# Altium integrated library Midnight Sun Integrated Library.IntLib: 89 symbols
Pins are listed as number, name and electrical type; pins without a type are passive.

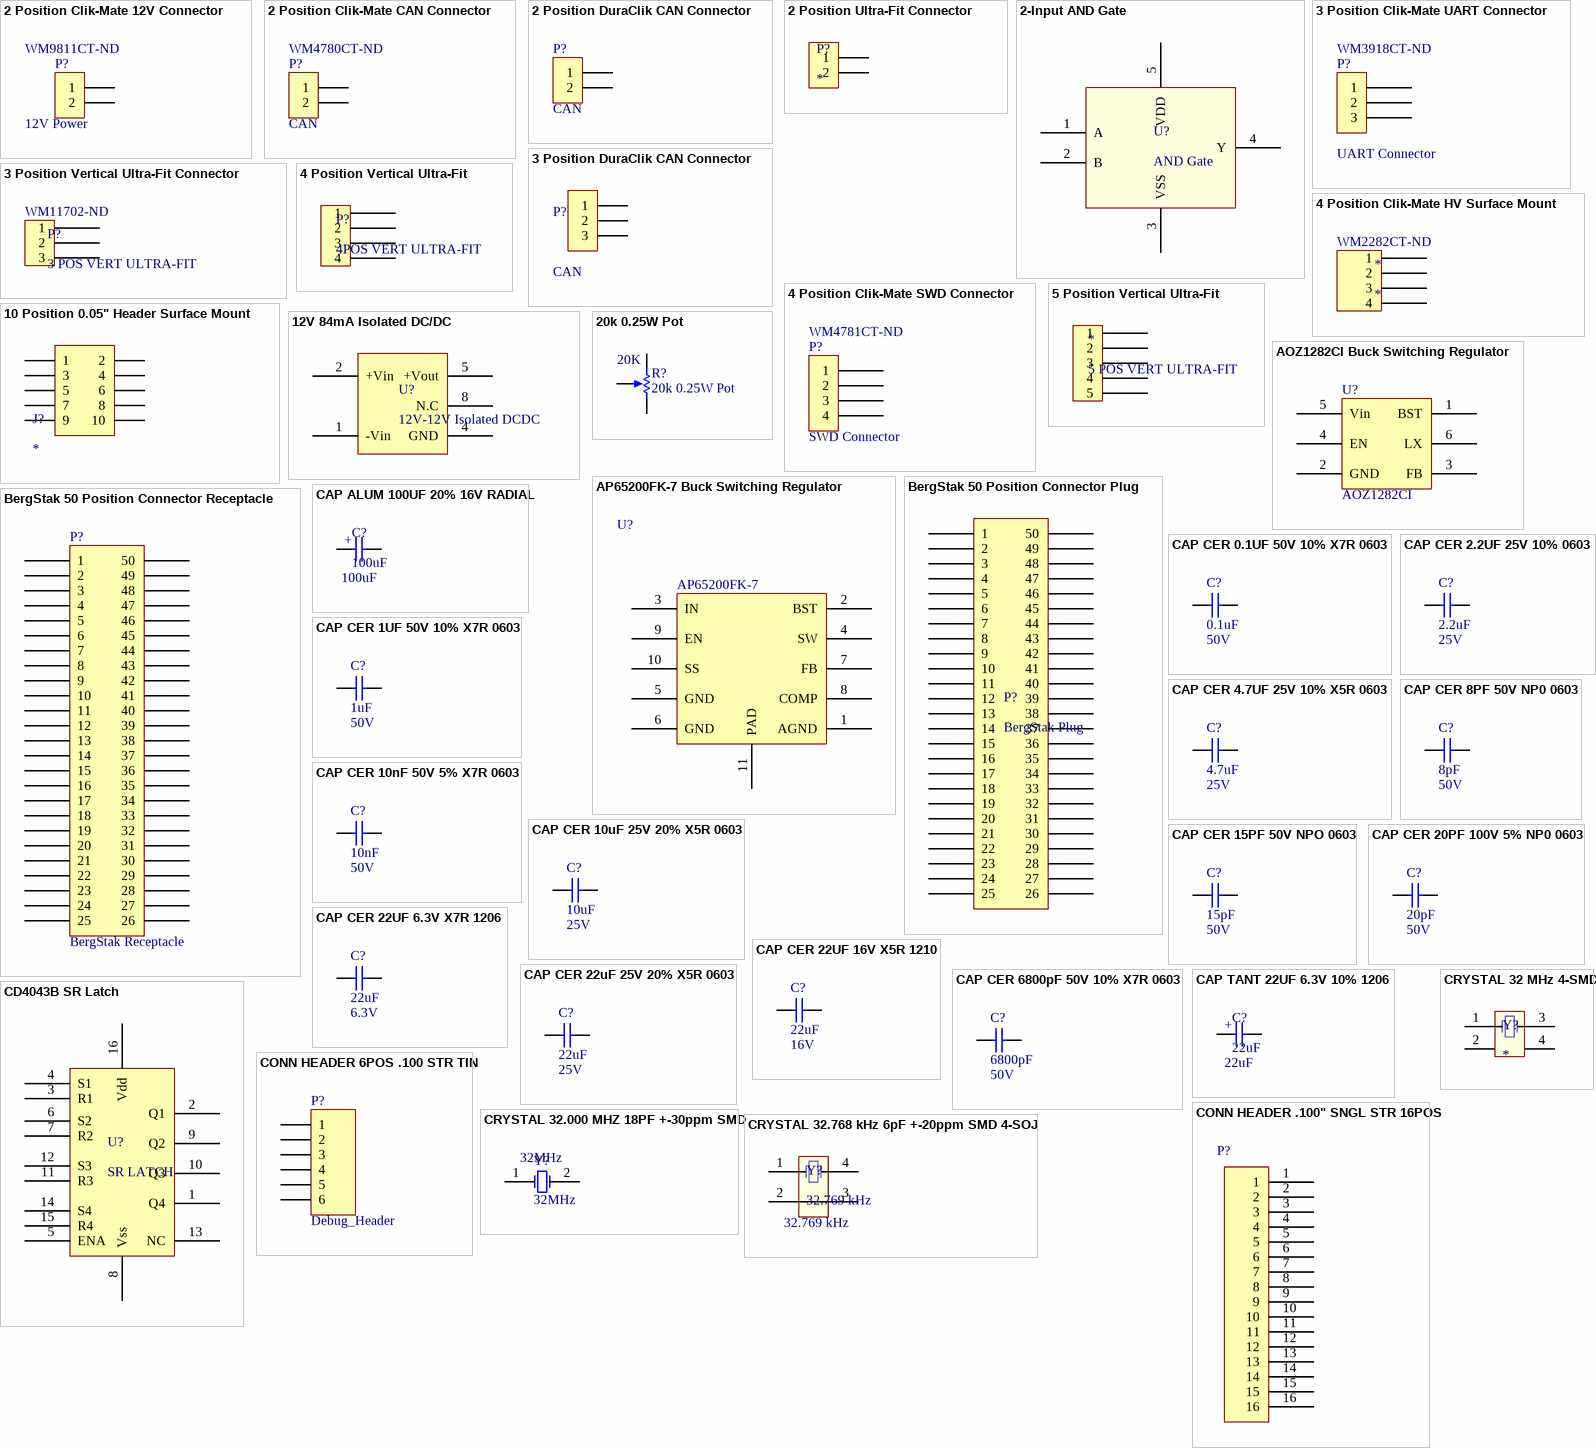
[diagram p0: symbols 2 Position Clik-Mate 12V Connector to CRYSTAL 32.768 kHz 6pF +-20ppm SMD 4-SOJ]

## 2 Position Clik-Mate 12V Connector
designator P?, comment 12V Power  Supplier Part Number 1: WM9811CT-ND
2 Position Receptacle Connector 0.059" (1.50mm) Surface Mount Tin; Manufacturer Part Number: 5025840270; Digikey Part Number: WM9811CT-ND; Supplier 1: Digi-Key
footprint WM9811CT-ND
pins: 1, 2

## 2 Position Clik-Mate CAN Connector
designator P?, comment CAN  Supplier Part Number 1: WM4780CT-ND
2 Position Receptacle Connector 0.049" (1.25mm) Surface Mount Tin; Manufacturer Part Number: 5023820270; Digikey Part Number: WM4780CT-ND; Supplier 1: Digi-Key
footprint WM4780CT-ND
pins: 1, 2

## 2 Position DuraClik CAN Connector
designator P?, comment CAN
2 Positions Header, Shrouded Connector 0.079" (2.00mm) Surface Mount, Right Angle Tin; Manufacturer: Molex; Manufacturer Part Number: 5023520200; Supplier: Digi-Key; Supplier Part Number: WM7169CT-ND
footprint 2 POS Dura-Click (WM7169CT-ND)
pins: 1, 2

## 2 Position Ultra-Fit Connector
designator P?
2 Positions Header, Shrouded Connector 0.138" (3.50mm) Through Hole Gold; Manufacturer PN: 1722861302; Digikey PN: WM11673-ND
pins: 1, 2

## 2-Input AND Gate
designator U?, comment AND Gate
IC GATE AND 1CH 2-INP 5-SSOP; Manufacture: Rohm Semiconductor; Manufacture Part Number: BU4S81G2-TR; Voltage - Supply': 3V ~ 16V; Logic Level - Low: 1.5V ~ 4V; Logic Level - High: 3.5V ~ 11V; Supplier 1: Digi-Key; Supplier Part Number 1: BU4S81G2CT-ND
footprint 2-Input AND Gate (IC GATE AND 1CH 2-INP 5-SSOP)
pins: 1 A, 2 B, 3 VSS, 4 Y, 5 VDD

## 3 Position Clik-Mate UART Connector
designator P?, comment UART Connector  Supplier Part Number 1: WM3918CT-ND
3 Position Receptacle Connector 0.049" (1.25mm) Surface Mount Tin; Maufacturer Part Number: 5023820370; Digikey Part Number: WM3918CT-ND; ComponentLink1Description: datasheet; ComponentLink1URL: http://www.molex.com/pdm_docs/sd/5023820370_sd.pdf; Supplier 1: Digi-Key
footprint WM3918CT-ND
pins: 1, 2, 3

## 3 Position DuraClik CAN Connector
designator P?, comment CAN
3 Positions Header, Shrouded Connector 0.079" (2.00mm) Surface Mount, Right Angle Tin; Manufacturer: Molex; Manufacturer Part Number: 5023520300; Supplier: Digi-Key; Supplier Part Number: WM10858CT-ND
footprint 3 POS Dura-Click (WM10858CT-ND)
pins: 1, 2, 3

## 3 Position Vertical Ultra-Fit Connector
designator P?, comment 3 POS VERT ULTRA-FIT  Supplier Part Number 1: WM11702-ND
3 Positions Header Connector 0.138" (3.50mm) Through Hole Tin; Manufacture: Molex LLC; Manufacture Part Number: 172287-1103; Supplier 1: Digi-Key
pins: 1, 2, 3

## 4 Position Clik-Mate HV Surface Mount
designator *  Supplier Part Number 1: WM2282CT-ND
4 Position Receptacle Connector 0.079" (2.00mm) Surface Mount, Right Angle Tin; Number of Positions: 4; Number of Rows: 1; Pitch: 0.079" (2.00mm); Mounting Type: Surface Mount, Right Angle; Supplier 1: Digi-Key
footprint WM2282CT-ND (4 Position 2.0mm Clik-Mate Connectors)
pins: 1, 2, 3, 4

## 4 Position Clik-Mate SWD Connector
designator P?, comment SWD Connector  Supplier Part Number 1: WM4781CT-ND
4 Position Receptacle Connector 0.049" (1.25mm) Surface Mount Tin; Maufacturer Part Number: 5023820470; Digikey Part Number: WM4781CT-ND; Supplier 1: Digi-Key
footprint WM4781CT-ND
pins: 1, 2, 3, 4

## 4 Position Vertical Ultra-Fit
designator P?, comment 4POS VERT ULTRA-FIT
4 Positions Header Connector 0.138" (3.50mm) Through Hole Tin; Manufacture: Molex LLC; Manufacture Part Number: 1722871104; Supplier 1: Digi-Key; Supplier Part Number 1: WM11703-ND
footprint 4 POS ULTRA-FIT
pins: 1, 2, 3, 4

## 5 Position Vertical Ultra-Fit
designator *, comment 5 POS VERT ULTRA-FIT
5 Positions Header Connector 0.138" (3.50mm) Through Hole Tin; Manufacture Part Number: 1722871105; Manufacture: Molex LLC; Supplier 1: Digi-Key; Supplier Part Number 1: WM11704-ND
footprint 5 POS ULTRA-FIT
pins: 1, 2, 3, 4, 5

## 10 Position 0.05" Header Surface Mount
designator J?
10 Positions Header Connector 0.050" (1.27mm) Surface Mount Gold; Manufacturer: Amphenol FCI; Manufacturer Part Number: 20021121-00010C4LF; Supplier: Digikey; SupplierPartNumber: 609-3695-1-ND
footprint 10 POS 1.27MM RECT CONN (Amphenol 10 Positions Header Connector 0.050" (1.27mm) Surface Mount Gold)
pins: 1, 2, 3, 4, 5, 6, 7, 8, 9, 10

## 12V 84mA Isolated DC/DC
designator U?, comment 12V-12V Isolated DCDC
Isolated Module DC DC Converter 1 Output 12V 84mA 10.8V - 13.2V Input; Manufacturer Part Number: ISE1212A-TR; Manufacturer: XP Power; Supplier 1: Digi-Key; Supplier Part Number 1: 1470-2950-1-ND
footprint 1470-2950-1-ND/Isolated DCDC
pins: 1 -Vin, 2 +Vin, 4 GND, 5 +Vout, 8 N.C

## 20k 0.25W Pot
designator R?  value 20K
20k Ohm 0.25W, 1/4W Gull Wing Surface Mount Trimmer Potentiometer; Manufacture: TT Electronics/BI; Manufacture Part Number: 23BR20KLFTR; Adjustment Type: Top; Turns: 1; Tolerence: 20%; Power: 1/4W; Supplier 1: Digi-Key; Supplier Part Number 1: 987-1016-1-ND
simulation model POT (Potentiometer)
footprint 20K POT
pins: 1 TOP, 2 TAP, 3 BOT
1 alternate drawing of the same symbol

## AOZ1282CI Buck Switching Regulator
designator U?  Manufacturer Part Number: AOZ1282CI  (hidden comment: AOZ1282CI Buck Switching Regulator)
IC REG BUCK ADJ 1.2A SOT23-6; Digikey Part Number: 785-1613-1-ND; Supplier 1: Digi-Key; Supplier Part Number 1: 785-1613-1-ND
footprint SOT23-6
pins: 1 BST, 2 GND, 3 FB, 4 EN, 5 Vin, 6 LX

## AP65200FK-7 Buck Switching Regulator
designator U?  Manufacturer Part Number: AP65200FK-7  (hidden comment: AP65200FK-7 Buck Switching Regulator)
Buck Switching Reg IC Positive Adjustable 0.925V 1 Output 2A 10-UFDFN Exposed Pad; Digikey Part Number: AP65200FK-7DICT-ND; Supplier 1: Digi-Key; Supplier Part Number 1: AP65200FK-7DICT-ND
footprint 10-UFDFN
pins: 1 AGND, 2 BST, 3 IN, 4 SW, 5 GND (power), 6 GND (power), 7 FB, 8 COMP, 9 EN, 10 SS, 11 PAD

## BergStak 50 Position Connector Plug
designator P?, comment BergStak Plug
50 Position Connector Plug, Outer Shroud Contacts Surface Mount Gold; Manufacturer PN: 10132797-055100LF; Digikey PN: 609-5226-1-ND
footprint Bergstak 50 Pos Plug (Bergstak 50 Position Plug)
pins: 1, 2, 3, 4, 5, 6, 7, 8, 9, 10, 11, 12, 13, 14, 15, 16, 17, 18, 19, 20, 21, 22, 23, 24, 25, 26, 27, 28, 29, 30, 31, 32, 33, 34, 35, 36, 37, 38, 39, 40, 41, 42, 43, 44, 45, 46, 47, 48, 49, 50

## BergStak 50 Position Connector Receptacle
designator P?, comment BergStak Receptacle
50 Position Connector Receptacle, Center Strip Contacts Surface Mount Gold; Manufacturer Part Number: 10132798-052100LF; Digikey Part Number: 609-5227-1-ND; Supplier 1: Digi-Key; Supplier Part Number 1: 609-5227-1-ND
footprint Bergstak 50 Pos Receptacle (Bergstak 50 Position Receptacle)
pins: 1, 2, 3, 4, 5, 6, 7, 8, 9, 10, 11, 12, 13, 14, 15, 16, 17, 18, 19, 20, 21, 22, 23, 24, 25, 26, 27, 28, 29, 30, 31, 32, 33, 34, 35, 36, 37, 38, 39, 40, 41, 42, 43, 44, 45, 46, 47, 48, 49, 50

## CAP ALUM 100UF 20% 16V RADIAL
designator C?, comment 100uF
100µF 16V Aluminum Capacitors Radial, Can 2000 Hrs @ 105°C; Manufacturer: Nichicon; Manufacturer PN: UKA1C101MDD; Supplier: Digikey; Supplier PN: 493-15321-ND; Voltage: 16V; Value: 100uF
footprint CAP ALUM 100UF 20% 16V RADIAL (100µF 16V Aluminum Capacitors Radial, Can 2000 Hrs @ 105°C)
pins: 1, 2
text: +

## CAP CER 0.1UF 50V 10% X7R 0603
designator C?, comment 0.1uF  Voltage: 50V
0.10µF ±10% 50V Ceramic Capacitor X7R 0603 (1608 Metric); Manufacturer: AVX Corporation; ManufacturerPartNumber: 06035C104KAT2A; Value: 0.1uF; Supplier: Digi-Key; SupplierPartNumber: 478-5052-1-ND
footprint CAPC1608X06N (Chip Capacitor, 2-Leads, Body 1.60x0.81mm, IPC Medium Density)
pins: 1, 2

## CAP CER 1UF 50V 10% X7R 0603
designator C?, comment 1uF  Voltage: 50V
1µF ±10% 50V Ceramic Capacitor X7R 0603 (1608 Metric); Manufacturer: Taiyo Yuden; ManufacturerPartNumber: UMK107AB7105KA-T; Value: 1uF; Supplier 1: Digi-Key; Supplier Part Number 1: 587-3247-1-ND
footprint CAPC1608X06N (Chip Capacitor, 2-Leads, Body 1.60x0.81mm, IPC Medium Density)
pins: 1, 2

## CAP CER 2.2UF 25V 10% 0603
designator C?, comment 2.2uF  Voltage: 25V
2.2µF ±10% 25V Ceramic Capacitor X5R 0603 (1608 Metric); ManufacturerPartNumber: GRM188R61E225KA12D; Manufacturer: Murata Electronics North America; Supplier: Digi-Key; Value: 2.2uF; Supplier Part Number: 490-10731-1-ND
footprint CAPC1608X06N (Chip Capacitor, 2-Leads, Body 1.60x0.81mm, IPC Medium Density)
pins: 1, 2

## CAP CER 4.7UF 25V 10% X5R 0603
designator C?, comment 4.7uF  Voltage: 25V
4.7µF ±10% 25V Ceramic Capacitor X5R 0603 (1608 Metric); Manufacturer: Murata Electronics North America; ManufacturerPartNumber: GRM188R61E475KE11D; Value: 4.7uF; Supplier: Digi-Key; SupplierPartNumber: 490-7203-1-ND
footprint CAPC1608X06N (Chip Capacitor, 2-Leads, Body 1.60x0.81mm, IPC Medium Density)
pins: 1, 2

## CAP CER 8PF 50V NP0 0603
designator C?, comment 8pF  Voltage: 50V
8pF ±0.5pF 50V Ceramic Capacitor C0G, NP0 0603 (1608 Metric); Manufacturer: Murata Electronics North America; ManufacturerPartNumber: GRM1885C1H8R0DA01D; Value: 8pF; Supplier: Digi-Key; SupplierPartNumber: 490-9670-1-ND
footprint CAPC1608X06N (Chip Capacitor, 2-Leads, Body 1.60x0.81mm, IPC Medium Density)
pins: 1, 2

## CAP CER 10nF 50V 5% X7R 0603
designator C?, comment 10nF  Voltage: 50V
10000pF ±5% 50V Ceramic Capacitor U2J 0603 (1608 Metric); Manufacturer: Kemet; ManufacturerPartNumber: C0603C103J5JAC7867; Value: 10nF; Supplier: Digi-Key; SupplierPartNumber: 399-13384-1-ND
footprint CAPC1608X06N (Chip Capacitor, 2-Leads, Body 1.60x0.81mm, IPC Medium Density)
pins: 1, 2

## CAP CER 10uF 25V 20% X5R 0603
designator C?, comment 10uF  Voltage: 25V
10µF ±20% 25V Ceramic Capacitor X5R 0603 (1608 Metric); Manufacturer: Murata Electronics North America; ManufacturerPartNumber: GRM188R61E106MA73D; Value: 10uF; Supplier: Digi-Key; SupplierPartNumber: 490-7202-1-ND
footprint CAPC1608X06N (Chip Capacitor, 2-Leads, Body 1.60x0.81mm, IPC Medium Density)
pins: 1, 2

## CAP CER 15PF 50V NPO 0603
designator C?, comment 15pF  Voltage: 50V
15pF ±5% 50V Ceramic Capacitor C0G, NP0 0603 (1608 Metric); Manufacturer: Yageo; ManufacturerPartNumber: CC0603JRNPO9BN150; Value: 15pF; Supplier: Digi-Key; SupplierPartNumber: 311-1060-1-ND
footprint CAPC1608X06N (Chip Capacitor, 2-Leads, Body 1.60x0.81mm, IPC Medium Density)
pins: 1, 2

## CAP CER 20PF 100V 5% NP0 0603
designator C?, comment 20pF  Voltage: 50V
22pF 100V Ceramic Capacitor C0G, NP0 0603 (1608 Metric) 0.063" L x 0.031" W (1.60mm x 0.80mm); ManufacturerPartNumber: GCM1885C2A220JA16D; Manufacturer: Murata Electronics North America; Value: 20pF; SupplierPartNumber: 490-4942-1-ND; Supplier: Digi-Key
footprint CAPC1608X06N (Chip Capacitor, 2-Leads, Body 1.60x0.81mm, IPC Medium Density)
pins: 1, 2

## CAP CER 22UF 6.3V X7R 1206
designator C?, comment 22uF  Voltage: 6.3V
22µF ±10% 6.3V Ceramic Capacitor X7R 1206 (3216 Metric); Manufacturer: Murata; ManufacturerPartNumber: GRM31CR70J226KE19L; Value: 22uF; Supplier: Digi-Key; SupplierPartNumber: 490-6515-1-ND
footprint CAPC3216X18N (Chip Capacitor, 2-Leads, Body 3.20x1.60mm, IPC Medium Density)
pins: 1, 2

## CAP CER 22UF 16V X5R 1210
designator C?, comment 22uF  Voltage: 16V
22µF ±20% 16V Ceramic Capacitor X5R 1210 (3225 Metric); Manufacturer: Murata; ManufacturerPartNumber: GRM32ER61C226ME20L; Value: 22uF; Supplier: Digi-Key; SupplierPartNumber: 490-1881-1-ND
footprint CAPC3225X28M (Chip Capacitor, 2-Leads, Body 3.20x2.50mm, IPC Low Density)
pins: 1, 2

## CAP CER 22uF 25V 20% X5R 0603
designator C?, comment 22uF  Voltage: 25V
0.22µF ±20% 25V Ceramic Capacitor X5R 0603 (1608 Metric); Manufacturer: Wurth Electronics Inc; ManufacturerPartNumber: 885012106019; Value: 22uF; Supplier: Digi-Key; SupplierPartNumber: 732-7916-1-ND
footprint CAPC1608X06N (Chip Capacitor, 2-Leads, Body 1.60x0.81mm, IPC Medium Density)
pins: 1, 2

## CAP CER 6800pF 50V 10% X7R 0603
designator C?, comment 6800pF  Voltage: 50V
6800pF ±10% 50V Ceramic Capacitor X7R 0603 (1608 Metric); Manufacturer: Samsung Electro-Mechanics America, Inc.; ManufacturerPartNumber: CL10B682KB8SFNC; Value: 6800pF; Supplier: Digi-Key; SupplierPartNumber: 1276-2103-1-ND
footprint CAPC1608X06N (Chip Capacitor, 2-Leads, Body 1.60x0.81mm, IPC Medium Density)
pins: 1, 2

## CAP TANT 22UF 6.3V 10% 1206
designator C?, comment 22uF
22µF ±10% Molded Tantalum Capacitors 6.3V 1206 (3216 Metric) 3 Ohm; Manufacturer PN: TAJA226K006RNJ; Manufacturer: AVX Corporation; Supplier: Digikey; Supplier PN: 478-3865-2-ND; Voltage: 6.3V; Value: 22uF
footprint CAP TANT 22UF 6.3V 10% 1206 (22µF ±10% Molded Tantalum Capacitors 6.3V 1206 (3216 Metric) 3 Ohm)
pins: 1, 2
text: +

## CD4043B SR Latch
designator U?, comment SR LATCH
S-R Latch 4 Channel 1:1 IC Tri-State 16-TSSOP; Manufacture: Texas Instruments; Supply Voltage: 3-18V; Delay Time: 50ns; Output Type: Tri-State; Package: 16SOIC; Supplier 1: Digi-Key; Supplier Part Number 1: 296-31496-1-ND
footprint CD4043BDR-16SOIC (SR LATCH)
pins: 1 Q4, 2 Q1, 3 R1, 4 S1, 5 ENA, 6 S2, 7 R2, 8 Vss, 9 Q2, 10 Q3, 11 R3, 12 S3, 13 NC, 14 S4, 15 R4, 16 Vdd

## CONN HEADER 6POS .100 STR TIN
designator P?, comment Debug_Header
6 Positions Header, Unshrouded, Breakaway Connector 0.100" (2.54mm) Surface Mount Tin; Manufacturer: Molex, LLC; Manufacturer Part Number: 0015912060; Supplier: Digikey; Supplier Part Number: WM17449-ND
footprint CONN HEADER 6POS .100" VERT TIN (6 Positions Header, Unshrouded, Breakaway Connector 0.100" (2.54mm) Surface Mount Tin)
pins: 1, 2, 3, 4, 5, 6

## CONN HEADER .100" SNGL STR 16POS
designator P?  (value not drawn)
16 Positions Header, Breakaway Connector 0.100" (2.54mm) Through Hole Gold; MFG_PN: PRPC016SAAN-RC; MFG: Sullins Connector Solutions; Supplier: Digikey; Supplier_PN: S1011EC-16-ND
footprint CONN HEADER .100" SNGL STR 16POS (16 Positions Header, Breakaway Connector 0.100" (2.54mm) Through Hole Gold)
pins: 1, 2, 3, 4, 5, 6, 7, 8, 9, 10, 11, 12, 13, 14, 15, 16

## CRYSTAL 32 MHz 4-SMD
designator Y?
32MHz ±15ppm Crystal 8pF 50 Ohm -40°C ~ 85°C AEC-Q200 Surface Mount 4-SMD, No Lead; Manufacturer PN: CX2520DB32000D0GPSC1; Manfacturer: AVX Corp/Kyocera Corp; Supplier: Digikey; Supplier PN: 1253-1730-1-ND
footprint CX2520DB CRYSTAL
pins: 1 OSC1, 2, 3 OSC2, 4 3

## CRYSTAL 32.000 MHZ 18PF +-30ppm SMD
designator Y?, comment 32MHz
32MHz ±30ppm Crystal 18pF 40 Ohm -40°C ~ 85°C Surface Mount HC49/US; ManufacturerPartNumber: ABLS2-32.000MHZ-D4YF-T; Manufacturer: Abracon LLC; Supplier: Digi-Key; SupplierPartNumber: 535-9888-1-ND; Supplier 1: Digi-Key; Supplier Part Number 1: 535-9888-1-ND; Frequency: 32MHz
footprint HC49
pins: 1 OSC1, 2 OSC2

## CRYSTAL 32.768 kHz 6pF +-20ppm SMD 4-SOJ
designator Y?, comment 32.769 kHz
32.768kHz ±20ppm Crystal 6pF 50 kOhm -40°C ~ 85°C Surface Mount 4-SOJ, 5.50mm pitch; Manufacturer Part Number: ABS25-32.768KHZ-6-T; Digikey Part Number: 535-10240-1-ND; Supplier 1: Digi-Key; Supplier Part Number 1: 535-10240-1-ND; VALUE: 32.769 kHz
footprint 4-SOJ
pins: 1 OSC1, 2, 3, 4 OSC2

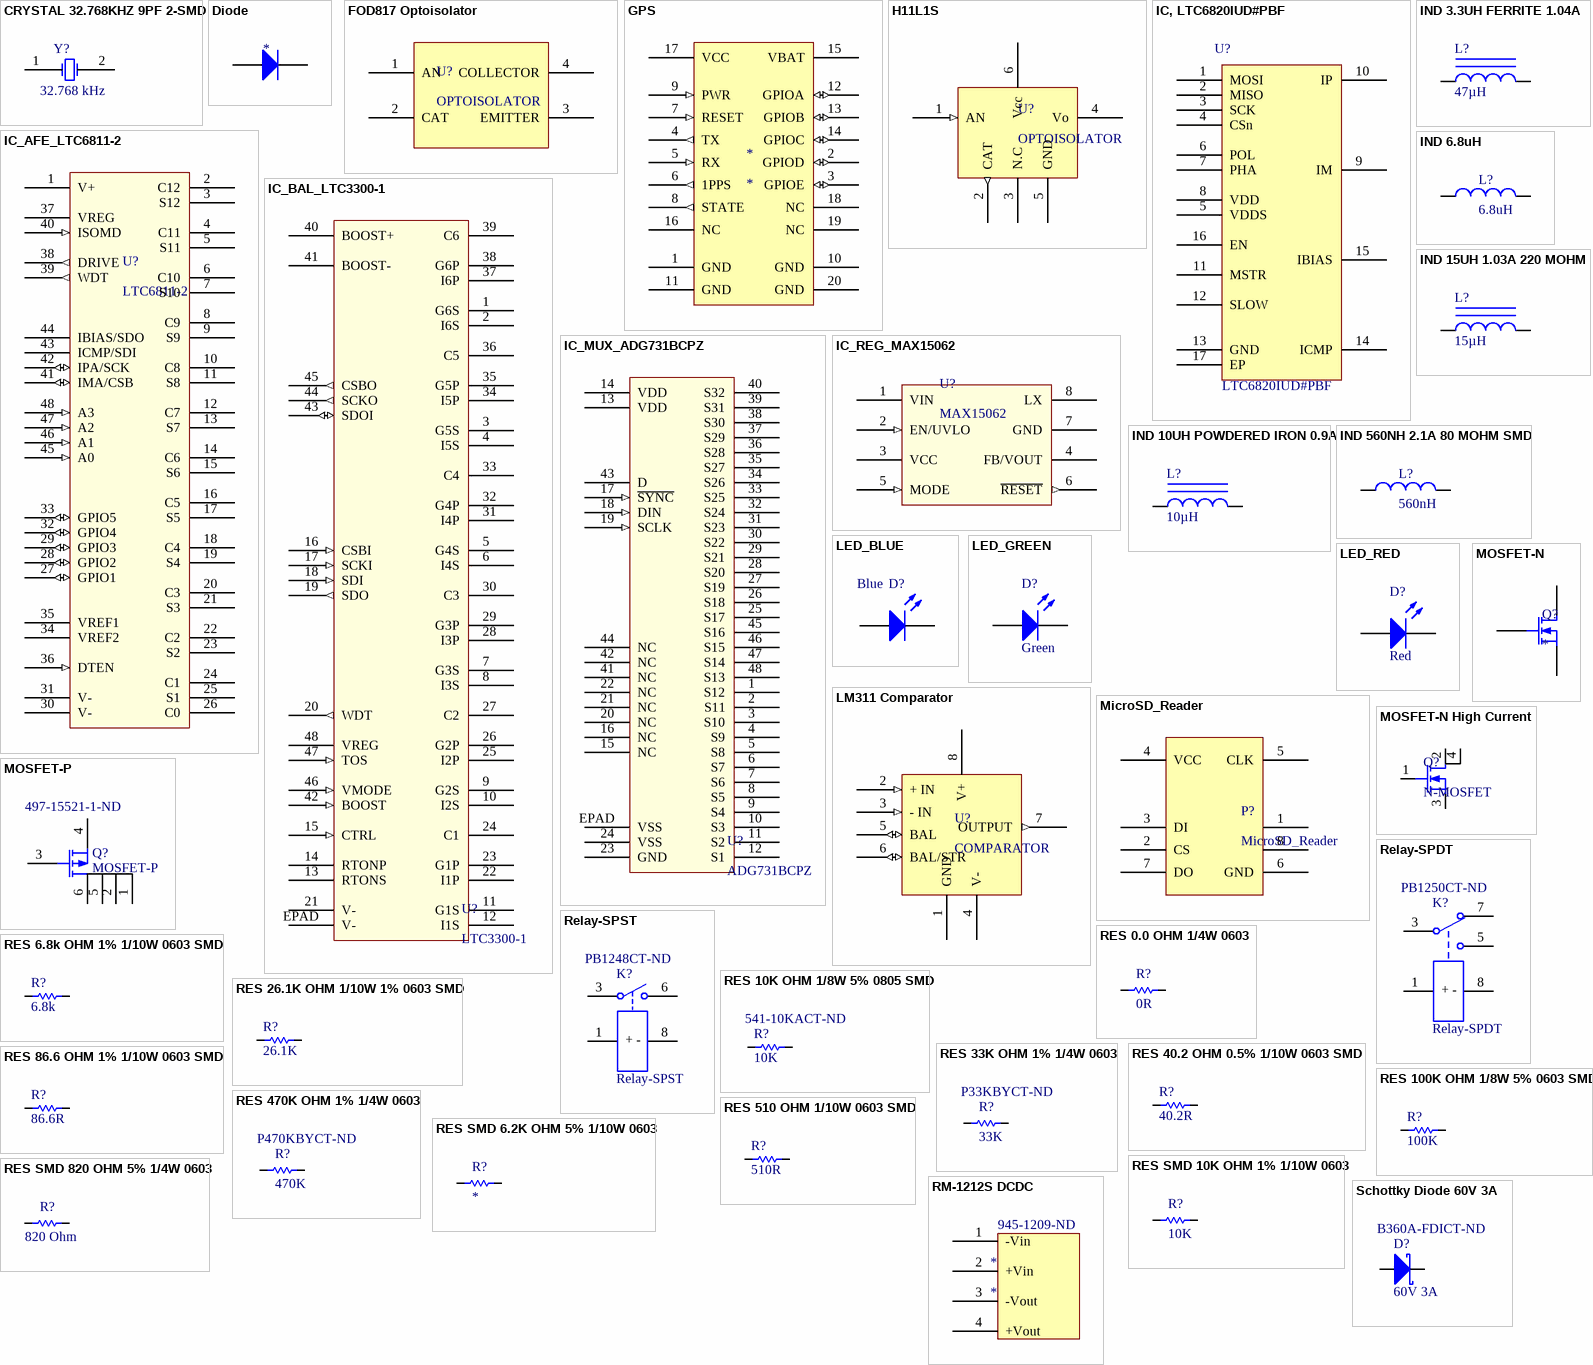
[diagram p1: symbols CRYSTAL 32.768KHZ 9PF 2-SMD to Schottky Diode 60V 3A]

## CRYSTAL 32.768KHZ 9PF 2-SMD
designator Y?, comment 32.768 kHz
32.768kHz ±20ppm Crystal 6pF 50 kOhm -40°C ~ 85°C Surface Mount 4-SOJ, 5.50mm pitch; Manufacturer Part Number: ABS07AIG-32.768KHZ-9-1-T; Supplier: Digi-Key; Supplier Part Number: 535-13353-1-ND; VALUE: 32.768 kHz
footprint ABS07AIG CRYSTAL
pins: 1, 2

## Diode
designator *
Diode Schottky 40V 3A Surface Mount DO-214AA (SMB); Manufacture: Comchip Technology; Manufacture Part Number: CDBB340-HF; Voltage - Zener (Nom): 40; Voltage - Forward: 500mV @ 3A; Supplier 1: Digi-Key; Supplier Part Number 1: 641-1722-1-ND
footprint DO-214AA Diode (Zener Diode 16V 5W SMBJ5353B-TP)
pins: 1 A, 2 K

## FOD817 Optoisolator
designator U?, comment OPTOISOLATOR
OPTOISOLATOR 5KV TRANSISTOR 4SMD; Manufacture: Fairchild/ON Semiconductor; Manufacture Part Number: FOD817DS; Voltage - Forward: 1.2V Typ; Current Transfer Ratio: 300-600%; Supplier 1: Digi-Key; Supplier Part Number 1: FOD817DS-ND; Output Type: Transistor
footprint FOD817DS OPTOISOLATOR
pins: 1 AN, 2 CAT, 3 EMITTER, 4 COLLECTOR

## GPS
designator *
GPS Module; Manufacturer PN: EVM-GPS-F4; Digikey PN: EVM-GPS-F4-ND
pins: 1 GND (power), 2 GPIOD (io), 3 GPIOE (io), 4 TX (out), 5 RX (in), 6 1PPS (out), 7 RESET (in), 8 STATE (out), 9 PWR (in), 10 GND (power), 11 GND (power), 12 GPIOA (io), 13 GPIOB (io), 14 GPIOC (io), 15 VBAT (power), 16 NC, 17 VCC (power), 18 NC, 19 NC, 20 GND (power)

## H11L1S
designator U?, comment OPTOISOLATOR
OPTOISO 5KV OPEN COLLECTOR 6SMD; Manufacture Part Number: H11L1S(TA); Manufacture: Everlight Electronics Co Ltd; Isolation: 5000Vrms; Voltage Supply: 3-16V; Supplier 1: Digi-Key; Supplier Part Number 1: 1080-1201-6-ND
footprint H11LS (Logic Output Optoisolator Open Collector 1080-1201-6-ND)
pins: 1 AN (in) "ANODE", 2 CAT (out) "CATHODE", 3 N.C, 4 Vo, 5 GND, 6 Vcc

## IC, LTC6820IUD#PBF
designator U?  Manufacturer_PN: LTC6820IUD#PBF  (hidden comment: *)
IC COMM INTERFACE ISOSPI 16-QFN; Manufacturer: Linear Technology; Supplier: Digikey; Supplier_PN: LTC6820IUD#PBF-ND
pins: 1 MOSI, 2 MISO, 3 SCK, 4 CSn, 5 VDDS, 6 POL, 7 PHA, 8 VDD, 9 IM, 10 IP, 11 MSTR, 12 SLOW, 13 GND, 14 ICMP, 15 IBIAS, 16 EN, 17 EP

## IC_AFE_LTC6811-2
designator U?, comment LTC6811-2
IC MONITOR BATT STACK 48SSOP; Manufacturer: Linear Technology; Manufacturer Part Number: LTC6811HG-2#PBF; Digikey Part Number: LTC6811HG-2#PBF-ND
pins: 1 V+ (power), 2 C12, 3 S12, 4 C11, 5 S11, 6 C10, 7 S10, 8 C9, 9 S9, 10 C8, 11 S8, 12 C7, 13 S7, 14 C6, 15 S6, 16 C5, 17 S5, 18 C4, 19 S4, 20 C3, 21 S3, 22 C2, 23 S2, 24 C1, 25 S1, 26 C0, 27 GPIO1 (io), 28 GPIO2 (io), 29 GPIO3 (io), 30 V- (power), 31 V- (power), 32 GPIO4 (io), 33 GPIO5 (io), 34 VREF2 (power), 35 VREF1 (power), 36 DTEN (in), 37 VREG (power), 38 DRIVE (out), 39 WDT (out), 40 ISOMD (in), 41 IMA/CSB (io), 42 IPA/SCK (io), 43 ICMP/SDI, 44 IBIAS/SDO, 45 A0 (in), 46 A1 (in), 47 A2 (in), 48 A3 (in)

## IC_BAL_LTC3300-1
designator U?, comment LTC3300-1
IC BATTERY BALANCER 48LQFP; Manufacturer: Linear Technology; Manufacturer Part Number: LTC3300HLXE-1#PBF
pins: 1 G6S, 2 I6S, 3 G5S, 4 I5S, 5 G4S, 6 I4S, 7 G3S, 8 I3S, 9 G2S, 10 I2S, 11 G1S, 12 I1S, 13 RTONS, 14 RTONP, 15 CTRL (in), 16 CSBI (in), 17 SCKI (in), 18 SDI (in), 19 SDO (out), 20 WDT (out), 21 V- (power), 22 I1P, 23 G1P, 24 C1, 25 I2P, 26 G2P, 27 C2, 28 I3P, 29 G3P, 30 C3, 31 I4P, 32 G4P, 33 C4, 34 I5P, 35 G5P, 36 C5, 37 I6P, 38 G6P, 39 C6, 40 BOOST+, 41 BOOST-, 42 BOOST (in), 43 SDOI (io), 44 SCKO (out), 45 CSBO (out), 46 VMODE (in), 47 TOS (in), 48 VREG (power), EPAD V- (power)

## IC_MUX_ADG731BCPZ
designator U?, comment ADG731BCPZ
IC MULTIPLEXER 32X1 48LFCSP; Manufacturer: Analog Devices Inc.; Supplier 1: Digi-Key; Supplier Part Number 1: ADG731BCPZ-ND; Manufacturer Part Number: ADG731BCPZ
pins: 1 S12, 2 S11, 3 S10, 4 S9, 5 S8, 6 S7, 7 S6, 8 S5, 9 S4, 10 S3, 11 S2, 12 S1, 13 VDD (power), 14 VDD (power), 15 NC, 16 NC, 17 ~{SYNC} (in), 18 DIN (in), 19 SCLK (in), 20 NC, 21 NC, 22 NC, 23 GND (power), 24 VSS (power), 25 S17, 26 S18, 27 S19, 28 S20, 29 S21, 30 S22, 31 S23, 32 S24, 33 S25, 34 S26, 35 S27, 36 S28, 37 S29, 38 S30, 39 S31, 40 S32, 41 NC, 42 NC, 43 D, 44 NC, 45 S16, 46 S15, 47 S14, 48 S13, EPAD VSS (power)

## IC_REG_MAX15062
designator U?, comment MAX15062
IC REG BUCK 5V 0.3A SYNC 8-TDFN; Manufacturer: Maxim Integrated; Manufacturer Part Number: MAX15062BATA+T; Digikey Part Number: MAX15062BATA+TCT-ND
pins: 1 VIN (power), 2 EN/UVLO (in), 3 VCC (power), 4 FB/VOUT (power), 5 MODE (in), 6 ~{RESET} (out), 7 GND (power), 8 LX (power)

## IND 3.3UH FERRITE 1.04A
designator L?, comment 47µH
Manufacturer: TDK Corporation; Manufacturer Part Number: VLS201612CX-3R3M; Type: Wirewound; Material - Core: Ferrite; Tolerance: ±20%; Current Rating: 1.37A; Current - Saturation: 1.04A; Shielding: Shielded; DC Resistance (DCR): 170 mOhm Max; Frequency - Test: 1MHz; Supplier 1: Digi-Key; Supplier Part Number 1: 445-172964-1-ND; RoHS: RoHS Compliant; Category: Inductors, Coils, Chokes; Stock 1: 4000; Pricing 1: 1=0.43, 10=0.387, 50=0.3014, 100=0.2798, 500=0.24538, 1000=0.19803 (USD); Packaging: Cut Tape (CT); Q @ Freq: -; Frequency - Self Resonant: -; Operating Temperature: -40°C ~ 105°C; Mounting Type: Surface Mount; Package / Case: Nonstandard; Size / Dimension: 0.079" L x 0.063" W (2.00mm x 1.60mm); Height - Seated (Max): 0.047" (1.20mm); Supplier Device Package: 2016; ComponentLink1URL: http://product.tdk.com/en/catalog/datasheets/inductor_commercial_power_vls-cx_en.pdf; ComponentLink1Description: http://product.tdk.com/en/catalog/datasheets/inductor_commercial_power_vls-cx_en.pdf; Inductance: 47µH
footprint 445-172964-1-ND
pins: 1, 2

## IND 6.8uH
designator L?, comment 6.8uH
6.8µH Shielded Wirewound Inductor 260mA 204 mOhm Max 1210 (3225 Metric); Manufacturer: TDK Corporation; Manufacturer Part Number: NLFV32T-6R8M-EF; Supplier 1: Digi-Key; Supplier Part Number 1: 445-15776-1-ND; Current Rating: 260mA; DC Resistance (DCR): 204 mOhm Max
footprint NLFV32T-6R8M-EF/IND 6.8uH
pins: 1, 2

## IND 10UH POWDERED IRON 0.9A
designator L?, comment 10µH
10µH Shielded Wirewound Inductor 900mA 420 mOhm Max 1210 (3225 Metric); Manufacturer: Murata Electronics North America; Manufacturer Part Number: 1277AS-H-100M=P2; Tolerance: ±20%; Current Rating: 0.9A; Current - Saturation: 1.25A; Supplier 1: Digi-Key; Supplier Part Number 1: 490-10589-1-ND; Type: Wirewound; Shielding: Shielded; DC Resistance (DCR): 420 mOhm Max; Height - Seated (Max): 0.047" (1.20mm); ComponentLink1URL: http://www.toko.co.jp/products-murata/pdf/inductors/m_dfe322512c.pdf; ComponentLink1Description: datasheet; Inductance: 10µH
footprint 1210
pins: 1, 2

## IND 15UH 1.03A 220 MOHM
designator L?, comment 15µH
15µH Shielded Wirewound Inductor 1.03A 220 mOhm Max 1919 (4848 Metric); Manufacturer: Bourns Inc.; Manufacturer Part Number: SRR4018-150Y; Tolerance: ±30%; Current - Saturation: 820mA; Supplier 1: Digi-Key; Supplier Part Number 1: SRR4018-150YCT-ND; Type: Wirewound; Current Rating: 1.03A; DC Resistance (DCR): 20 mOhm Max; Height - Seated (Max): 0.079" (2.00mm); Inductance: 15µH
footprint IND_BOURNS_SRR40
pins: 1, 2

## IND 560NH 2.1A 80 MOHM SMD
designator L?, comment 560nH
560nH Shielded Multilayer Inductor 2.1A 80 mOhm Max 0806 (2016 Metric); Manufacturer: Wurth Electronics Inc.; Manufacturer Part Number: 74479977156; Supplier: Digi-Key; SupplierPartNumber: 445-15776-1-ND; Current Rating: 2.1A; DC Resistance (DCR): 80 mOhm Max; Value: 560nH
footprint INDC2116X06N (Chip Inductor, 2-Leads, Body 2.10x1.60mm, IPC Medium Density)
pins: 1, 2

## LED_BLUE
designator D?, comment Blue
LED BLUE CLEAR 0603 SMD; Manufacturer: Lite-On Inc.; Manufacturer Part Number: LTST-C193TBKT-5A; Forward Voltage: 2.8V; DC Foward Current: 20mA; Digikey Part Number: 160-1827-1-ND; Color: Blue
footprint DIOC1608X06N (Chip Diode, 2-Leads, Body 1.60x0.80mm, IPC Medium Density)
pins: 1 A, 2 K

## LED_GREEN
designator D?, comment Green
LED GREEN CLEAR 0603 SMD; Manufacturer: Lite-On Inc.; Manufacturer Part Number: LTST-C193KGKT-5A; Forward Voltage: 2.0V; DC Forward Current: 30mA; Package: 0603; Color: Green; Supplier: Digi-Key; Supplier Part Number: 160-1828-1-ND
footprint DIOC1608X06N (Chip Diode, 2-Leads, Body 1.60x0.80mm, IPC Medium Density)
pins: 1 A, 2 K

## LED_RED
designator D?, comment Red
Red LED 0603; Manufacture: Lite-On Inc.; Manufacture Part Number: LTST-C191KRKT; Forward Voltage: 2.0V; DC Forward Current: 30mA; Package: 0603; Color: Red; Supplier: Digi-Key; Supplier Part Number: 160-1447-1-ND
footprint DIOC1608X06N (Chip Diode, 2-Leads, Body 1.60x0.80mm, IPC Medium Density)
pins: 1 A, 2 K

## LM311 Comparator
designator U?, comment COMPARATOR
IC VOLTAGE COMPARATOR 8-SOIC; Manufacture: Texas Instruments; Manufacture Part Number: LM311M/NOPB; Voltage Supply: 5 V ~ 36 V, ±2.5 V ~ 18 V; Output Type: DTL, MOS, Open-Collector, Open-Emitter, RTL, TTL; Supplier 1: Digi-Key; Supplier Part Number 1: LM311MNS/NOPB-ND
footprint SOIC8
pins: 1 GND (power), 2 + IN (in), 3 - IN (in), 4 V- (power), 5 BAL (io), 6 BAL/STR (io) "Balance/Strobe", 7 OUTPUT (out), 8 V+ (power)

## MicroSD_Reader
designator P?
CONN MICRO SD CARD PUSH-PULL R/A; Manufacturer PN: 114-00841-68; Digikey PN: 114-00841-68-1-ND
footprint MicroSD_reader
pins: 1  , 2 CS, 3 DI, 4 VCC (power), 5 CLK, 6 GND (power), 7 DO, 8  

## MOSFET-N
designator Q?
MOSFET N-CH 50V 200MA SOT23-3; Manufacture: Diodes Incorporated; Manufacture Part Number: BSS138-7-F; Vendor Part Number: 497-3177-1-ND; Vendor: Digi-Key; Supplier 1: Digi-Key; Supplier Part Number 1: BSS138-FDICT-ND
footprint N-CH MOSFET SOT-23 (SI2318CDS-T1-GE3CT-ND)
pins: 1 G, 2 S, 3 D

## MOSFET-N High Current
designator Q?, comment N-MOSFET
MOSFET N-CH 55V 7A SOT223; Manufacture: Nexperia USA Inc.; Manufacture Part Number: BUK9880-55A/CUX; Vgs: +-15V; Rds On (Max) @ Id, Vgs: 73 mOhm @ 8A, 10V; Drain to Source Voltage (Vdss): 55V; Supplier 1: Digi-Key; Supplier Part Number 1: 1727-2230-1-ND
footprint BUK9880 N-MOSFET 7A (SOT223, 4-Leads, Body 6.50x7.00mm (avg), Pitch 2.30mm, IPC Medium Density)
pins: 1 G, 2 D, 3 S, 4

## MOSFET-P
designator Q?  Supplier Part Number 1: 497-15521-1-ND
MOSFET P-CH 30V 4A SOT23-6; Manufacture: STMicroelectronics; Manufacture Part Number: STT4P3LLH6; Vendor: Digi-Key; Current - Cont Drain: 4A (Ta); FET Type: MOSFET P-Channel, Metal Oxide; Vendor Part Number: 497-15521-1-ND; Drain to Source Voltage (Vdss): 30V; Package: SOT-23-6; Supplier 1: Digi-Key
simulation model PMOS (MOSFET-P)
footprint P-MOSFET (SOT23, 6-Leads, Body 2.93x2.80mm, Pitch 0.95mm, IPC Medium Density)
pins: 1 D, 2 D, 3 G, 4 S, 5 D, 6 D

## Relay-SPDT
designator K?  Supplier Part Number 1: PB1250CT-ND
Telecom Relay SPDT (1 Form C) Surface Mount; Manufacturer Part Number: 1462042-9; Coil Type: Non Latching; Coil Voltage: 12V; Switching Voltage: 250VAC, 220VDC; Operate Time: 3ms; Coil Power: 140 mW; Contact Form: SPDT; Supplier 1: Digi-Key
simulation model SPDTRELAY (Spice Subcircuit)
footprint RELAY_SPDT
pins: 1 +, 3, 5, 7, 8 -
text: + -

## Relay-SPST
designator K?  Supplier Part Number 1: PB1248CT-ND
Telecom Relay SPST-NO (1 Form A) Surface Mount; Manufacture: TE Connectivity Potter & Brumfield Relays; Manufacture Part Number: 1462041-3; Coil Type: 11.7mA; Coil Voltage: 12VDC; Contact Rating: 2A; Switching Voltage: 250VAC, 220VDC - Max; Operate Time: 3ms; Contact Form: SPST-NO; Supplier 1: Digi-Key
simulation model SPSTRELAY (Spice Subcircuit)
footprint RELAY-SPST
pins: 1 + "Coil +", 3, 6, 8 - "Coil -"
text: + -

## RES 0.0 OHM 1/4W 0603
designator R?, comment 0R
RES SMD 0.0 OHM JUMPER 1/4W 0603; Manufacture: Vishay Dale; Manufacture Part Number: CRCW06030000Z0EAHP; Power (W): 0.25; Resistance: 0.0; Supplier 1: Digi-Key; Supplier Part Number 1: 541-0.0SBCT-ND; Package: 0603
footprint RESC1608X06N (Chip Resistor, 2-Leads, Body 1.60x0.80mm, IPC Medium Density)
pins: 1, 2

## RES 6.8k OHM 1% 1/10W 0603 SMD
designator R?, comment 6.8k
RES SMD 6.8K OHM 1% 1/10W 0603; ManufacturerPartNumber: RMCF0603FT6K80; Manufacturer: Stackpole Electronics Inc.; Value: 6.8k; Supplier: Digi-Key; Supplier Part Number: RMCF0603FT6K80CT-ND
footprint RESC1608X06N (Chip Resistor, 2-Leads, Body 1.60x0.80mm, IPC Medium Density)
pins: 1, 2

## RES 10K OHM 1/8W 5% 0805 SMD
designator R?, comment 10K  Supplier Part Number 1: 541-10KACT-ND
ManufacturerPartNumber: CRCW080510K0JNEA; Manufacturer: Vishay Dale; Value: 10K; Supplier: Digi-Key; SupplierPartNumber: 541-10KACT-ND; Supplier 1: Digi-Key
footprint 0805
pins: 1, 2

## RES 26.1K OHM 1/10W 1% 0603 SMD
designator R?, comment 26.1K
RES SMD 26.1K OHM 1% 1/10W 0603; ManufacturerPartNumber: RC0603FR-0726K1L; Manufacturer: Yageo; Value: 26.1K; Supplier: Digi-Key; SupplierPartNumber: 311-26.1KHRCT-ND
footprint RESC1608X06N (Chip Resistor, 2-Leads, Body 1.60x0.80mm, IPC Medium Density)
pins: 1, 2

## RES 33K OHM 1% 1/4W 0603
designator R?, comment 33K  Supplier Part Number 1: P33KBYCT-ND
RES 33K OHM 1% 1/4W 0603; Manufacture: Panasonic Electronic Components; Manufacture Part Number: ERJ-PA3F3302V; Vendor Part Number: P47KBYCT-ND; Vendor: Digi-Key; Power: 0.25W; Tolerence: 1%; Package: 0603; Value: 33K; Supplier 1: Digi-Key
footprint RESC1608X06N (Chip Resistor, 2-Leads, Body 1.60x0.80mm, IPC Medium Density)
pins: 1, 2

## RES 40.2 OHM 0.5% 1/10W 0603 SMD
designator R?, comment 40.2R
RES SMD 40.2 OHM 0.5% 1/10W 0603; ManufacturerPartNumber: RT0603DRE0740R2L; Manufacturer: Yageo; Value: 40.2R; Supplier: Digi-Key; Supplier Part Number: 311-2576-1-ND
footprint RESC1608X06N (Chip Resistor, 2-Leads, Body 1.60x0.80mm, IPC Medium Density)
pins: 1, 2

## RES 86.6 OHM 1% 1/10W 0603 SMD
designator R?, comment 86.6R
RES SMD 86.6 OHM 1% 1/10W 0603; ManufacturerPartNumber: RC0603FR-0786R6L; Manufacturer: Yageo; Value: 86.6R; Supplier: Digi-Key; Supplier Part Number: YAG3330CT-ND
footprint RESC1608X06N (Chip Resistor, 2-Leads, Body 1.60x0.80mm, IPC Medium Density)
pins: 1, 2

## RES 100K OHM 1/8W 5% 0603 SMD
designator R?, comment 100K
RES SMD 100K OHM 5% 1/10W 0603; ManufacturerPartNumber: RC0603JR-07100KL; Manufacturer: Yageo; Value: 100K; Supplier: Digi-Key; SupplierPartNumber: 311-100KGRCT-ND
footprint RESC1608X06N (Chip Resistor, 2-Leads, Body 1.60x0.80mm, IPC Medium Density)
pins: 1, 2

## RES 470K OHM 1% 1/4W 0603
designator R?, comment 470K  Supplier Part Number 1: P470KBYCT-ND
RES SMD 470K OHM 1% 1/4W 0603; Manufacture: Panasonic Electronic Components; Manufacture Part Number: ERJ-PA3F4703V; Vendor: Digi-Key; Power: 0.25W; Tolerence: 1%; Package: 0603; Supplier 1: Digi-Key; Value: 470K
footprint RESC1608X06N (Chip Resistor, 2-Leads, Body 1.60x0.80mm, IPC Medium Density)
pins: 1, 2

## RES 510 OHM 1/10W 0603 SMD
designator R?, comment 510R
RES SMD 510 OHM 5% 1/10W 0603; ManufacturerPartNumber: RC0603JR-07510RL; Manufacturer: Yageo; Value: 510R; Supplier: Digi-Key; SupplierPartNumber: 311-510GRCT-ND
footprint RESC1608X06N (Chip Resistor, 2-Leads, Body 1.60x0.80mm, IPC Medium Density)
pins: 1, 2

## RES SMD 6.2K OHM 5% 1/10W 0603
designator R?
RES SMD 6.2K OHM 5% 1/10W 0603; Manufacture: Yageo; Manufacture Part Number: RC0603JR-076K2L; Vendor Part Number: 311-6.2KGRCT-ND; Vendor: Digi-Key; Power: 0.25W; Tolerence: 5%; Package: 0603; Value: 6.2K
footprint RESC1608X06N (Chip Resistor, 2-Leads, Body 1.60x0.80mm, IPC Medium Density)
pins: 1, 2

## RES SMD 10K OHM 1% 1/10W 0603
designator R?, comment 10K
RES SMD 10K OHM 1% 1/10W 0603; Manufacture: Yageo; Manufacture Part Number: RC0603FR-0710KL; Tolerance: 1%; Power: 1/10W; Package: 0603; Supplier: Digi-Key; Supplier Part Number: 311-10.0KHRTR-ND; Value: 10K
footprint RESC1608X06N (Chip Resistor, 2-Leads, Body 1.60x0.80mm, IPC Medium Density)
pins: 1, 2

## RES SMD 820 OHM 5% 1/4W 0603
designator R?, comment 820 Ohm
RES SMD 820 OHM 5% 1/4W 0603; Manufacture: Rohm Semiconductor; Manufacture Part Number: ESR03EZPJ821; Power: 1/10W; Tolerence: 5%; Package: 0603; Supplier 1: Digi-Key; Supplier Part Number 1: RHM820DCT-ND; Value: 820 Ohm
footprint RES_0603 (Chip Resistor, 2-Leads, Body 1.60x0.80mm, IPC Medium Density)
pins: 1, 2

## RM-1212S DCDC
designator *  Supplier Part Number 1: 945-1209-ND
Supplier 1: Digi-Key
footprint RM-1212S
pins: 1 -Vin, 2 +Vin, 3 -Vout, 4 +Vout

## Schottky Diode 60V 3A
designator D?, comment 60V 3A  Supplier Part Number 1: B360A-FDICT-ND
DIODE SCHOTTKY 60V 3A SMA; Manufacturer Part Number: B360A-13-F; Digikey Part Number: B360A-FDICT-ND; Supplier 1: Digi-Key
footprint SMA
pins: 1, 2

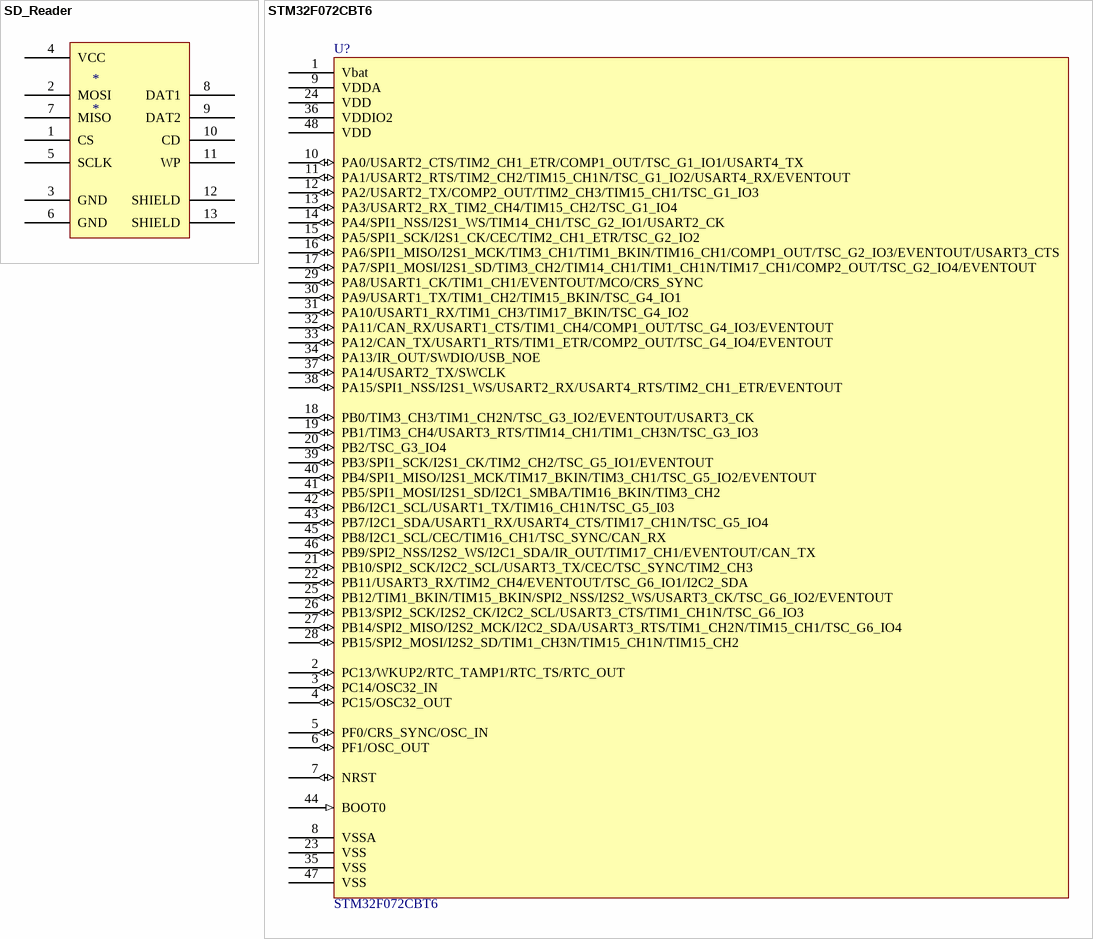
[diagram p2: symbols SD_Reader to STM32F072CBT6]

## SD_Reader
designator *
Manufacturer PN: 101-00313-68-02; Digikey PN: 101-00313-68-02CT-ND
pins: 1 CS, 2 MOSI, 3 GND (power), 4 VCC (power) "3.3V", 5 SCLK, 6 GND (power), 7 MISO, 8 DAT1, 9 DAT2, 10 CD "Card Detect", 11 WP "Write Protect", 12 SHIELD, 13 SHIELD

## STM32F072CBT6
designator U?
Digikey Part Number: 497-14645-ND; Supplier: Digi-Key; Supplier Part Number: 497-14645-ND; Manufacturer Part Number: STM32F072CBT6
footprint QFN50P700X700X60_HS-49N (QFN, 48-Leads, Body 7.00x7.00mm, Pitch 0.50mm, Thermal Pad 5.60x5.60mm, IPC Medium Density)
pins: 1 Vbat (power), 2 PC13/WKUP2/RTC_TAMP1/RTC_TS/RTC_OUT (io), 3 PC14/OSC32_IN (io), 4 PC15/OSC32_OUT (io), 5 PF0/CRS_SYNC/OSC_IN (io), 6 PF1/OSC_OUT (io), 7 NRST (io), 8 VSSA (power), 9 VDDA (power), 10 PA0/USART2_CTS/TIM2_CH1_ETR/COMP1_OUT/TSC_G1_IO1/USART4_TX (io), 11 PA1/USART2_RTS/TIM2_CH2/TIM15_CH1N/TSC_G1_IO2/USART4_RX/EVENTOUT (io), 12 PA2/USART2_TX/COMP2_OUT/TIM2_CH3/TIM15_CH1/TSC_G1_IO3 (io), 13 PA3/USART2_RX_TIM2_CH4/TIM15_CH2/TSC_G1_IO4 (io), 14 PA4/SPI1_NSS/I2S1_WS/TIM14_CH1/TSC_G2_IO1/USART2_CK (io), 15 PA5/SPI1_SCK/I2S1_CK/CEC/TIM2_CH1_ETR/TSC_G2_IO2 (io), 16 PA6/SPI1_MISO/I2S1_MCK/TIM3_CH1/TIM1_BKIN/TIM16_CH1/COMP1_OUT/TSC_G2_IO3/EVENTOUT/USART3_CTS (io), 17 PA7/SPI1_MOSI/I2S1_SD/TIM3_CH2/TIM14_CH1/TIM1_CH1N/TIM17_CH1/COMP2_OUT/TSC_G2_IO4/EVENTOUT (io), 18 PB0/TIM3_CH3/TIM1_CH2N/TSC_G3_IO2/EVENTOUT/USART3_CK (io), 19 PB1/TIM3_CH4/USART3_RTS/TIM14_CH1/TIM1_CH3N/TSC_G3_IO3 (io), 20 PB2/TSC_G3_IO4 (io), 21 PB10/SPI2_SCK/I2C2_SCL/USART3_TX/CEC/TSC_SYNC/TIM2_CH3 (io), 22 PB11/USART3_RX/TIM2_CH4/EVENTOUT/TSC_G6_IO1/I2C2_SDA (io), 23 VSS (power), 24 VDD (power), 25 PB12/TIM1_BKIN/TIM15_BKIN/SPI2_NSS/I2S2_WS/USART3_CK/TSC_G6_IO2/EVENTOUT (io), 26 PB13/SPI2_SCK/I2S2_CK/I2C2_SCL/USART3_CTS/TIM1_CH1N/TSC_G6_IO3 (io), 27 PB14/SPI2_MISO/I2S2_MCK/I2C2_SDA/USART3_RTS/TIM1_CH2N/TIM15_CH1/TSC_G6_IO4 (io), 28 PB15/SPI2_MOSI/I2S2_SD/TIM1_CH3N/TIM15_CH1N/TIM15_CH2 (io), 29 PA8/USART1_CK/TIM1_CH1/EVENTOUT/MCO/CRS_SYNC (io), 30 PA9/USART1_TX/TIM1_CH2/TIM15_BKIN/TSC_G4_IO1 (io), 31 PA10/USART1_RX/TIM1_CH3/TIM17_BKIN/TSC_G4_IO2 (io), 32 PA11/CAN_RX/USART1_CTS/TIM1_CH4/COMP1_OUT/TSC_G4_IO3/EVENTOUT (io), 33 PA12/CAN_TX/USART1_RTS/TIM1_ETR/COMP2_OUT/TSC_G4_IO4/EVENTOUT (io), 34 PA13/IR_OUT/SWDIO/USB_NOE (io), 35 VSS (power), 36 VDDIO2 (power), 37 PA14/USART2_TX/SWCLK (io), 38 PA15/SPI1_NSS/I2S1_WS/USART2_RX/USART4_RTS/TIM2_CH1_ETR/EVENTOUT (io), 39 PB3/SPI1_SCK/I2S1_CK/TIM2_CH2/TSC_G5_IO1/EVENTOUT (io), 40 PB4/SPI1_MISO/I2S1_MCK/TIM17_BKIN/TIM3_CH1/TSC_G5_IO2/EVENTOUT (io), 41 PB5/SPI1_MOSI/I2S1_SD/I2C1_SMBA/TIM16_BKIN/TIM3_CH2 (io), 42 PB6/I2C1_SCL/USART1_TX/TIM16_CH1N/TSC_G5_I03 (io), 43 PB7/I2C1_SDA/USART1_RX/USART4_CTS/TIM17_CH1N/TSC_G5_IO4 (io), 44 BOOT0 (in), 45 PB8/I2C1_SCL/CEC/TIM16_CH1/TSC_SYNC/CAN_RX (io), 46 PB9/SPI2_NSS/I2S2_WS/I2C1_SDA/IR_OUT/TIM17_CH1/EVENTOUT/CAN_TX (io), 47 VSS (power), 48 VDD (power)

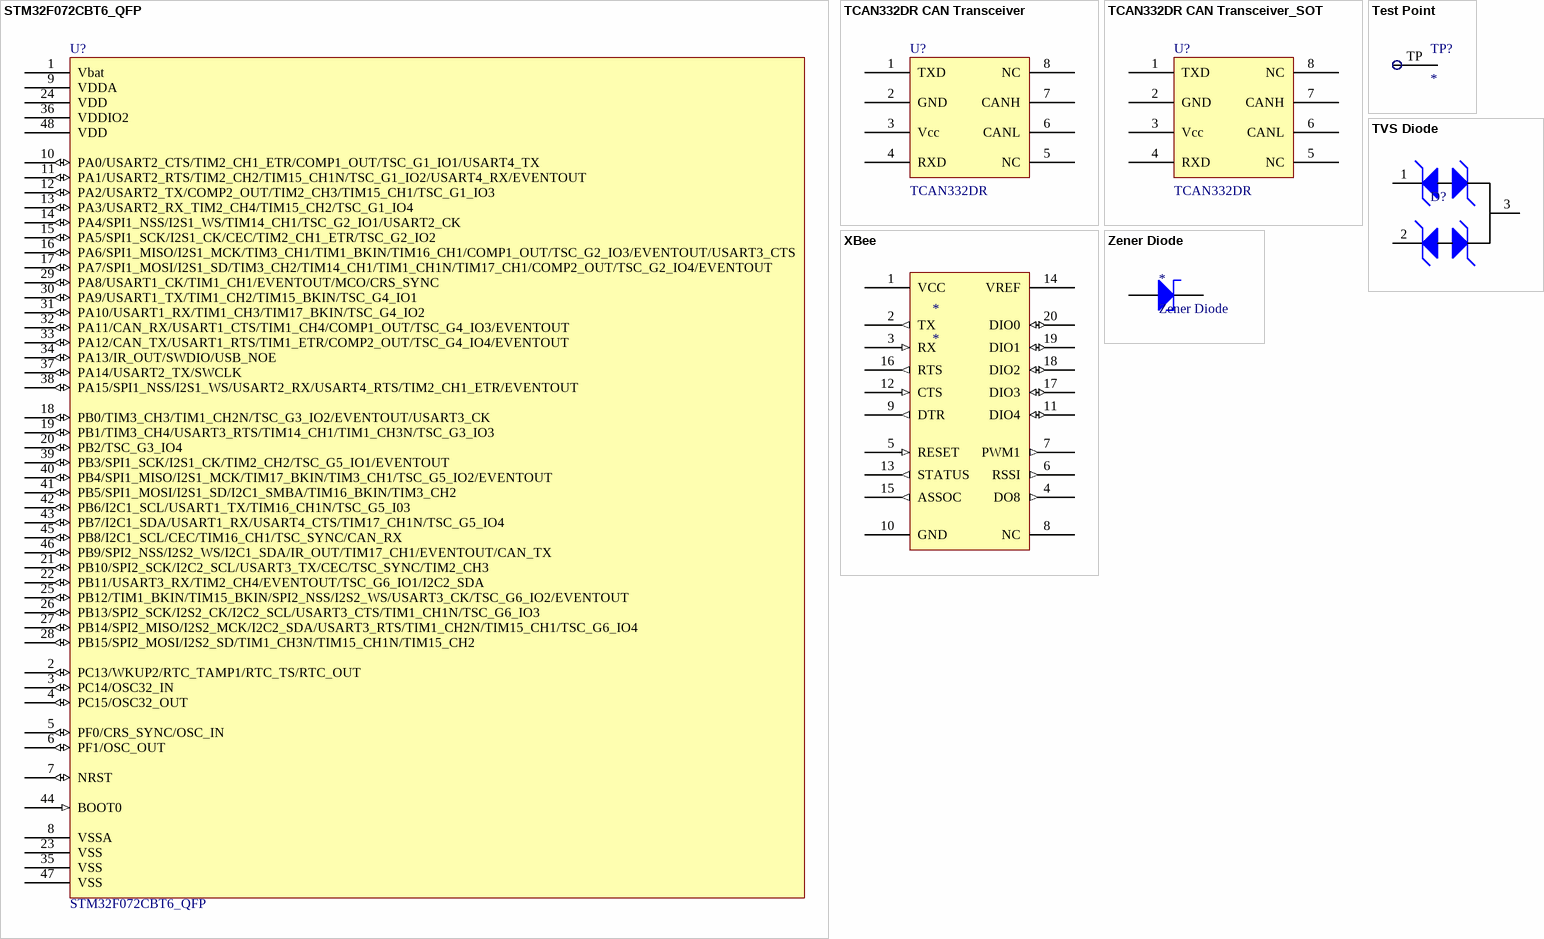
[diagram p3: symbols STM32F072CBT6_QFP to Zener Diode]

## STM32F072CBT6_QFP
designator U?
Digikey Part Number: 497-14645-ND; Supplier: Digi-Key; Supplier Part Number: 497-14645-ND; Manufacturer Part Number: STM32F072CBT6
footprint TSQFP50P890X890X160-48M (TSQFP, 48-Leads, Body 7.00x7.00mm, Pitch 0.50mm, IPC Low Density)
pins: 1 Vbat (power), 2 PC13/WKUP2/RTC_TAMP1/RTC_TS/RTC_OUT (io), 3 PC14/OSC32_IN (io), 4 PC15/OSC32_OUT (io), 5 PF0/CRS_SYNC/OSC_IN (io), 6 PF1/OSC_OUT (io), 7 NRST (io), 8 VSSA (power), 9 VDDA (power), 10 PA0/USART2_CTS/TIM2_CH1_ETR/COMP1_OUT/TSC_G1_IO1/USART4_TX (io), 11 PA1/USART2_RTS/TIM2_CH2/TIM15_CH1N/TSC_G1_IO2/USART4_RX/EVENTOUT (io), 12 PA2/USART2_TX/COMP2_OUT/TIM2_CH3/TIM15_CH1/TSC_G1_IO3 (io), 13 PA3/USART2_RX_TIM2_CH4/TIM15_CH2/TSC_G1_IO4 (io), 14 PA4/SPI1_NSS/I2S1_WS/TIM14_CH1/TSC_G2_IO1/USART2_CK (io), 15 PA5/SPI1_SCK/I2S1_CK/CEC/TIM2_CH1_ETR/TSC_G2_IO2 (io), 16 PA6/SPI1_MISO/I2S1_MCK/TIM3_CH1/TIM1_BKIN/TIM16_CH1/COMP1_OUT/TSC_G2_IO3/EVENTOUT/USART3_CTS (io), 17 PA7/SPI1_MOSI/I2S1_SD/TIM3_CH2/TIM14_CH1/TIM1_CH1N/TIM17_CH1/COMP2_OUT/TSC_G2_IO4/EVENTOUT (io), 18 PB0/TIM3_CH3/TIM1_CH2N/TSC_G3_IO2/EVENTOUT/USART3_CK (io), 19 PB1/TIM3_CH4/USART3_RTS/TIM14_CH1/TIM1_CH3N/TSC_G3_IO3 (io), 20 PB2/TSC_G3_IO4 (io), 21 PB10/SPI2_SCK/I2C2_SCL/USART3_TX/CEC/TSC_SYNC/TIM2_CH3 (io), 22 PB11/USART3_RX/TIM2_CH4/EVENTOUT/TSC_G6_IO1/I2C2_SDA (io), 23 VSS (power), 24 VDD (power), 25 PB12/TIM1_BKIN/TIM15_BKIN/SPI2_NSS/I2S2_WS/USART3_CK/TSC_G6_IO2/EVENTOUT (io), 26 PB13/SPI2_SCK/I2S2_CK/I2C2_SCL/USART3_CTS/TIM1_CH1N/TSC_G6_IO3 (io), 27 PB14/SPI2_MISO/I2S2_MCK/I2C2_SDA/USART3_RTS/TIM1_CH2N/TIM15_CH1/TSC_G6_IO4 (io), 28 PB15/SPI2_MOSI/I2S2_SD/TIM1_CH3N/TIM15_CH1N/TIM15_CH2 (io), 29 PA8/USART1_CK/TIM1_CH1/EVENTOUT/MCO/CRS_SYNC (io), 30 PA9/USART1_TX/TIM1_CH2/TIM15_BKIN/TSC_G4_IO1 (io), 31 PA10/USART1_RX/TIM1_CH3/TIM17_BKIN/TSC_G4_IO2 (io), 32 PA11/CAN_RX/USART1_CTS/TIM1_CH4/COMP1_OUT/TSC_G4_IO3/EVENTOUT (io), 33 PA12/CAN_TX/USART1_RTS/TIM1_ETR/COMP2_OUT/TSC_G4_IO4/EVENTOUT (io), 34 PA13/IR_OUT/SWDIO/USB_NOE (io), 35 VSS (power), 36 VDDIO2 (power), 37 PA14/USART2_TX/SWCLK (io), 38 PA15/SPI1_NSS/I2S1_WS/USART2_RX/USART4_RTS/TIM2_CH1_ETR/EVENTOUT (io), 39 PB3/SPI1_SCK/I2S1_CK/TIM2_CH2/TSC_G5_IO1/EVENTOUT (io), 40 PB4/SPI1_MISO/I2S1_MCK/TIM17_BKIN/TIM3_CH1/TSC_G5_IO2/EVENTOUT (io), 41 PB5/SPI1_MOSI/I2S1_SD/I2C1_SMBA/TIM16_BKIN/TIM3_CH2 (io), 42 PB6/I2C1_SCL/USART1_TX/TIM16_CH1N/TSC_G5_I03 (io), 43 PB7/I2C1_SDA/USART1_RX/USART4_CTS/TIM17_CH1N/TSC_G5_IO4 (io), 44 BOOT0 (in), 45 PB8/I2C1_SCL/CEC/TIM16_CH1/TSC_SYNC/CAN_RX (io), 46 PB9/SPI2_NSS/I2S2_WS/I2C1_SDA/IR_OUT/TIM17_CH1/EVENTOUT/CAN_TX (io), 47 VSS (power), 48 VDD (power)

## TCAN332DR CAN Transceiver
designator U?  Manufacturer Part Number: TCAN332DR  (hidden comment: TCAN332DR CAN Transceiver)
1/1 Transceiver CAN 8-SOIC; Digikey Part Number: 296-43711-1-ND; Supplier 1: Digi-Key; Supplier Part Number 1: 296-43711-1-ND
footprint SOIC8
pins: 1 TXD, 2 GND, 3 Vcc, 4 RXD, 5 NC, 6 CANL, 7 CANH, 8 NC

## TCAN332DR CAN Transceiver_SOT
designator U?  Manufacturer Part Number: TCAN332DR  (hidden comment: TCAN332DR CAN Transceiver_SOT)
1/1 Transceiver CAN 8-SOIC; Digikey Part Number: 296-43711-1-ND; Supplier 1: Digi-Key; Supplier Part Number 1: 296-43711-1-ND
footprint TSOP65P280X145-8N (TSOP, 8-Leads, Body 2.90x1.60mm, Pitch 0.65mm, IPC Medium Density)
pins: 1 TXD, 2 GND, 3 Vcc, 4 RXD, 5 NC, 6 CANL, 7 CANH, 8 NC

## Test Point
designator TP?
footprint Test Point
pins: TP 1

## TVS Diode
designator D?  (value not drawn)
TVS DIODE 24VWM 70VC SOT23; Reverse_Standoff_Voltage: 24V; Supplier: Digikey; Supplier_PN: 568-4032-1-ND
footprint SOT23 (SOT23, 3-Leads, Body 2.9x1.3mm, Pitch 0.95mm, Lead Span 2.3mm - Reverse Pinning, IPC Medium Density)
pins: 1 Cathode1, 2 Cathode2, 3 Common_Cathode (power)

## XBee
designator *
pins: 1 VCC (power), 2 TX (out), 3 RX (in), 4 DO8 (out) "Not Supported", 5 RESET (in), 6 RSSI (out) "RX Signal Strength Indicator", 7 PWM1 (out), 8 NC, 9 DTR (out), 10 GND, 11 DIO4 (io), 12 CTS (in), 13 STATUS (out), 14 VREF (power), 15 ASSOC (out) "Associated Indicator", 16 RTS (out), 17 DIO3 (io), 18 DIO2 (io), 19 DIO1 (io), 20 DIO0 (io)

## Zener Diode
designator *
Zener Diode 16V 5W ±5% Surface Mount DO-214AA (SMB); Manufacture: Micro Commercial Co; Manufacture Part Number: SMBJ5353B-TP; Impedence (Max): 2.5 Ohm; Voltage - Forward: 1.2V @ 1A; Voltage - Zener (Nom): 16V; Power (Max): 5W; Supplier 1: Digi-Key; Supplier Part Number 1: SMBJ5353B-TPMSCT-ND
footprint DO-214AA Diode (Zener Diode 16V 5W SMBJ5353B-TP)
pins: 1 A, 2 K